# Altium footprint library CO2.PcbLib: 1 footprints
Each footprint in its own frame and in the unit in brackets; x right, y up, seen from the top. Pads: shape width x height; smd on the part's side, far side on the other; paste and mask are expansions set on the pad; w line width, h text height; cw(c..) or ccw(c..) is an arc to the next point about the centre after c.
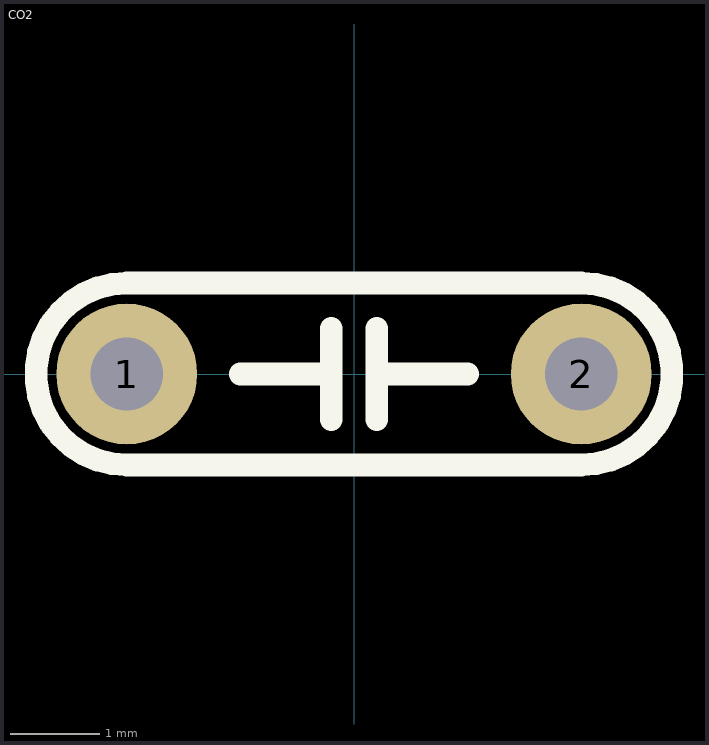
[diagram p0: the footprint, top view; thin cyan lines are the x and y axes]

## CO2 [mil] "CO2"
pads (2):
  round 62 hole 32: 1(-100,0) 2(100,0)
Top Overlay:
  lines w10: -50,0 -10,0 ; -10,-20 -10,20 ; 10,-20 10,20 ; 10,0 50,0 ; -100,-40 cw(c-100,0) -100,40 100,40 cw(c100,0) 100,-40 -100,-40